# Altium schematic symbol library Displays LCD.SchLib: 1 symbol
Pins are listed as number, name and electrical type; pins without a type are passive.

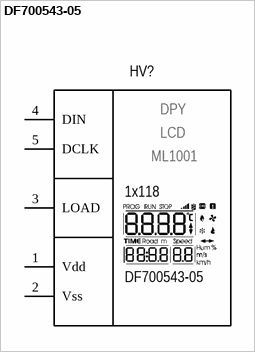
[diagram p0: symbol DF700543-05]

## DF700543-05
designator HV?
Display Segmental LCD128 Special; Group: Digital - Displays -  Segmental; Forward current: 50mA; Driver: ML1001; Package: DF700543-05; Part name: DF700543-05; Color: Black; Dimension: 48.53mm x 41.00mm; Thickness: 6.00mm; Operating Temperature: -40°C +85°C; Mounting Type: Through Hole
footprint Display LCD Segment 128 DF700543-05
pins: 1 Vdd, 2 Vss, 3 LOAD, 4 DIN, 5 DCLK
text: DPY; LCD; 1x118